# Altium footprint library DFN2x2-6L-U.PcbLib: 1 footprints
Each footprint in its own frame and in the unit in brackets; x right, y up, seen from the top. Pads: shape width x height; smd on the part's side, far side on the other; paste and mask are expansions set on the pad; w line width, h text height; cw(c..) or ccw(c..) is an arc to the next point about the centre after c.
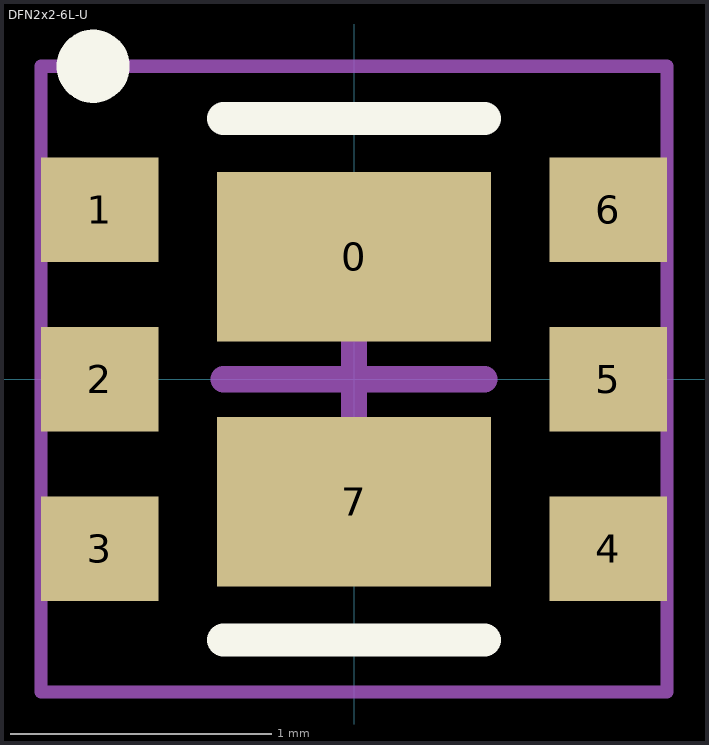
[diagram p0: the footprint, top view; thin cyan lines are the x and y axes]

## DFN2x2-6L-U [mm]
height 0.75
pads (8):
  rect 1.05x0.65 smd: 0(0,0.47) 7(0,-0.47)
  rect 0.45x0.4 smd: 1(-0.975,0.65) 2(-0.975,0) 3(-0.975,-0.65) 4(0.975,-0.65) 5(0.975,0) 6(0.975,0.65)
Top Overlay:
  circle w0.2: c-1,1.2 r0.04
  lines w0.127: -0.5,-1 0.5,-1 ; -0.5,1 0.5,1
Mechanical 15:
  lines w0.05: -1.2,-1.2 1.2,-1.2 1.2,1.2 -1.2,1.2 -1.2,-1.2
  lines w0.1: -0.5,0 0.5,0 ; 0,-0.5 0,0.5
3D body: height 0.75, standoff -0.02, extent -1.01,-1 1.01,1